# EAGLE library part 551-0207-004F (library 551-0207-004F)
Green Right Angle PCB LED Indicator, 4 LEDs, Through Hole 2.1 V Source: Datasheet
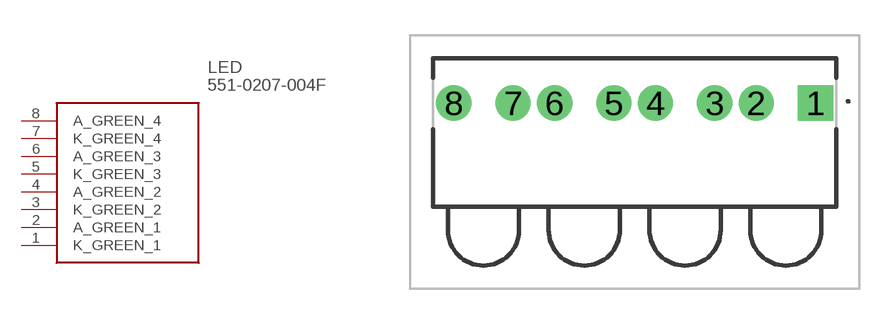
[diagram p0: symbol with the pads of 5510207004F; footprint 5510207004F]

Designator prefix LED

## 551-0207-004F (Description: Green Right Angle PCB LED Indicator, 4 LEDs, Through Hole 2.1 V; Height: 7.11mm; Manufacturer_Name: Dialight; Manufacturer_Part_Number: 551-0207-004F)  [5510207004F]
1  K_GREEN_1
2  A_GREEN_1
3  K_GREEN_2
4  A_GREEN_2
5  K_GREEN_3
6  A_GREEN_3
7  K_GREEN_4
8  A_GREEN_4

## Footprint 5510207004F (pad centres in mm)
551-0207-004F-2
drill 0.97 pad 1.509 square: 1 0,0
drill 0.97 pad 1.509: 2 -2.54,0; 3 -4.32,0; 4 -6.86,0; 5 -8.64,0; 6 -11.18,0; 7 -12.96,0; 8 -15.5,0